# Altium footprint library EISI.PcbLib: 695 footprints (part 12 of 44)
Each footprint in its own frame and in the unit in brackets; x right, y up, seen from the top. Pads: shape width x height; smd on the part's side, far side on the other; paste and mask are expansions set on the pad; w line width, h text height; cw(c..) or ccw(c..) is an arc to the next point about the centre after c.
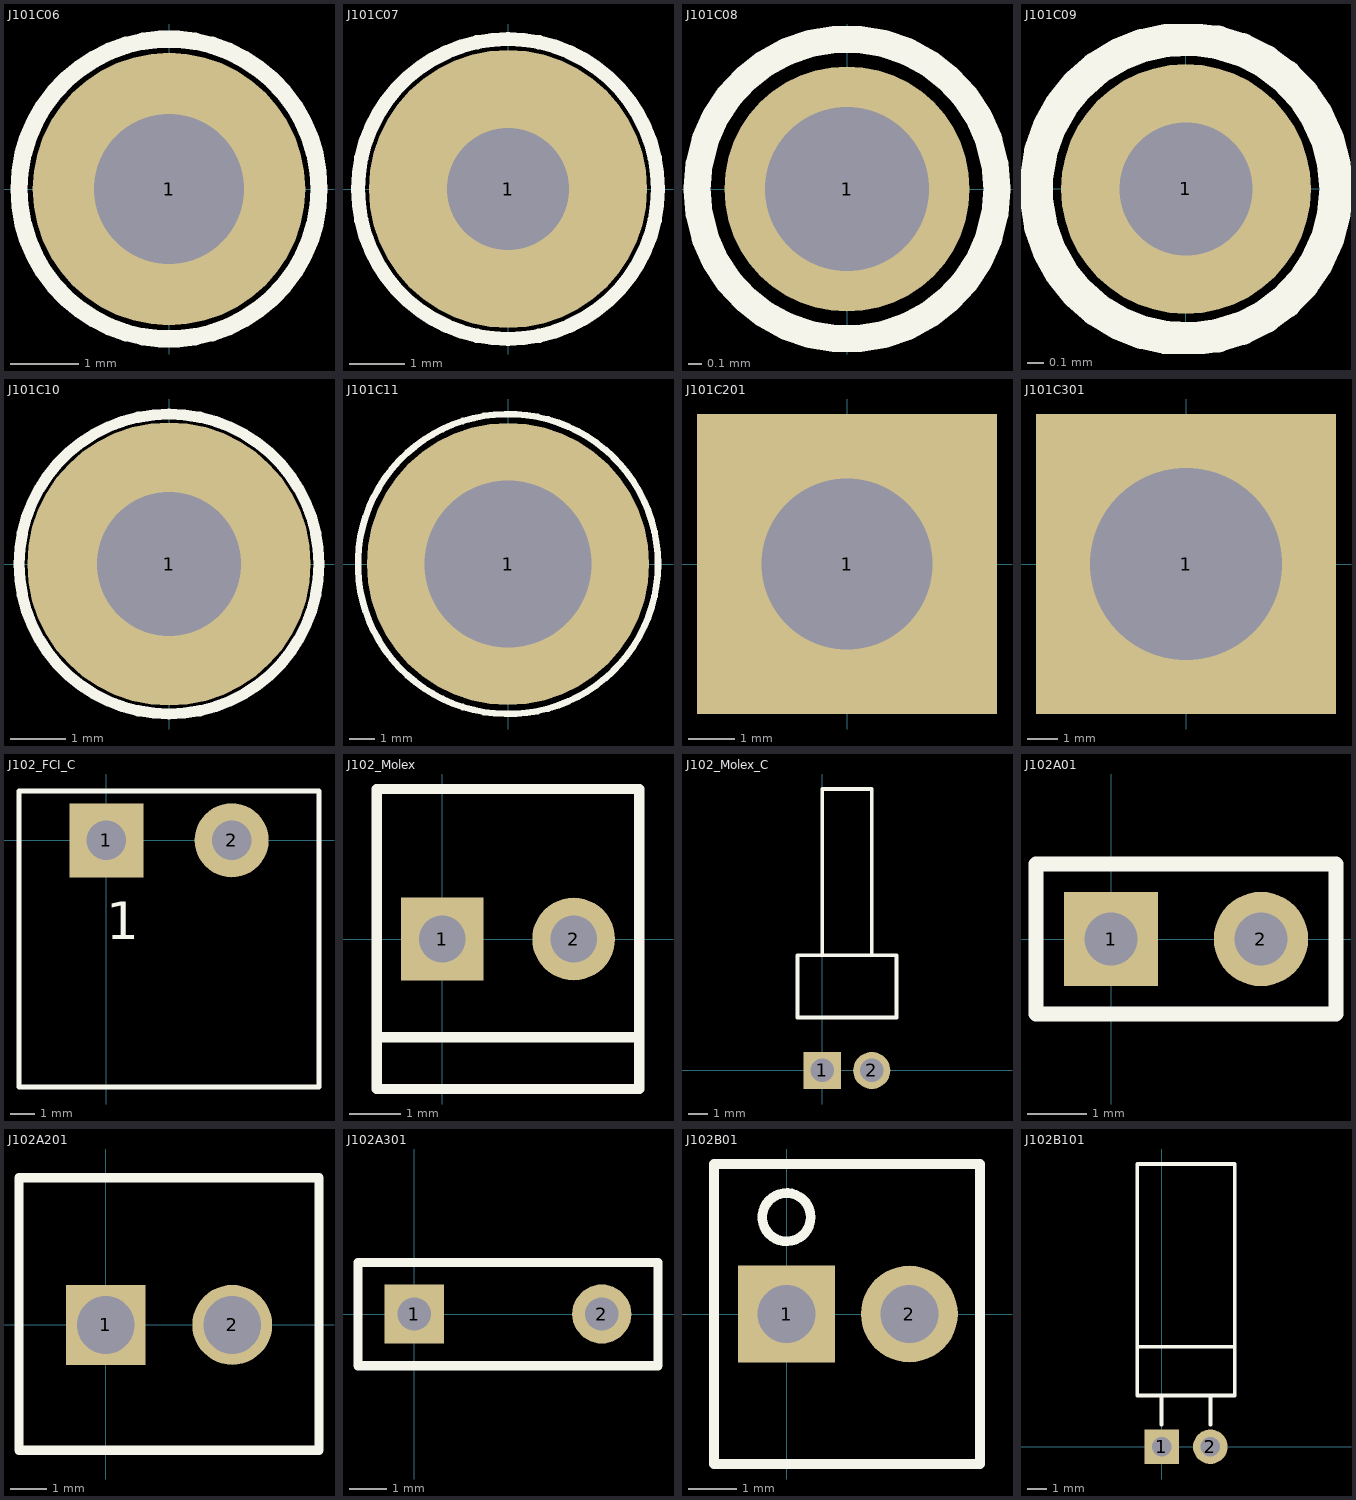
[diagram p11: the footprints below, top view; thin cyan lines are the x and y axes]

## J101C06 [mm] "Trou 2.2mm pastille 4mm"
pads (1):
  round 4 hole 2.2: 1(0,0)
TopOverlay:
  circle w0.254: c0,0 r2.2

## J101C07 [mil]
pads (1):
  round 197 hole 86.61: 1(0,0)
TopOverlay:
  circle w10: c0,0 r106.3

## J101C08 [mm] "trou 1.2mm pad 1.8mm"
pads (1):
  round 1.8 hole 1.2: 1(0,0)
TopOverlay:
  circle w0.2: c0,0 r1.1

## J101C09 [mm] "trou 0.8 mm pad 1.5mm"
pads (1):
  round 1.5 hole 0.8: 1(0,0)
TopOverlay:
  circle w0.2: c0,0 r0.9

## J101C10 [mm] "trou 2.6 mm pastille 5.1mm"
pads (1):
  round 5.1 hole 2.6: 1(0,0)
TopOverlay:
  circle w0.2: c0,0 r2.7

## J101C11 [mm] "Borne labo fiche 4mm M6"
height 10
pads (1):
  round 11 hole 6.5 unplated: 1(0,0)
TopOverlay:
  circle w0.254: c0,0 r5.842

## J101C201 [mm]
pads (1):
  rect 6.5x6.5 hole 3.7: 1(0,0)

## J101C301 [mm]
pads (1):
  rect 10x10 hole 6.4: 1(0,0)

## J102_FCI_C [mm] "TERM BLOCK HDR 2POS 5.08MM R/A FCI"
height 8.5
pads (2):
  rect 3x3 hole 1.6: 1(0,0)
  round 3 hole 1.6: 2(5.08,0)
TopOverlay:
  lines w0.2: -3.54,-10 -3.54,2 8.62,2 8.62,-10 -3.54,-10
  text "1" at 0,-4 h1.52

## J102_Molex [mm] "Connecteur Molex droit 2 pôles"
height 11.7
pads (2):
  rect 1.6x1.6 hole 0.9: 1(0,0)
  round 1.6 hole 0.9: 2(2.54,0)
TopOverlay:
  lines w0.2: -1.27,-1.9 3.81,-1.9 ; -1.27,-2.9 3.81,-2.9 3.81,2.9 -1.27,2.9 -1.27,0 -1.27,-2.9

## J102_Molex_C [mm]
pads (2):
  rect 1.9x1.9 hole 1.2: 1(0,0)
  round 1.9 hole 1.2: 2(2.54,0)
TopOverlay:
  lines w0.2: 0,5.9 0,14.42 2.54,14.42 2.54,5.9 ; -1.27,2.72 -1.27,5.9 3.81,5.9 3.81,2.72 -1.27,2.72

## J102A01 [mm]
pads (2):
  rect 1.6x1.6 hole 0.9: 1(0,0)
  round 1.6 hole 0.9: 2(2.54,0)
TopOverlay:
  lines w0.254: -1.27,-1.27 -1.27,1.27 3.81,1.27 3.81,-1.27 -1.27,-1.27

## J102A201 [mil]
pads (2):
  rect 87x87 hole 63: 1(0,0)
  round 87 hole 63: 2(137.79,0)
TopOverlay:
  lines w10: -94.49,-136.61 -94.49,160.24 232.28,160.24 232.28,-136.61 -94.49,-136.61

## J102A301 [mm]
pads (2):
  rect 1.6x1.6 hole 0.9: 1(0,0)
  round 1.6 hole 0.9: 2(5.08,0)
TopOverlay:
  lines w0.254: -1.524,-1.397 -1.524,1.397 6.604,1.397 6.604,-1.397 -1.524,-1.397

## J102B01 [mm] "Micro-Barette serre-fils pas 2.54mm"
height 8.5
pads (2):
  rect 2x2 hole 1.2: 1(0,0)
  round 2 hole 1.2: 2(2.54,0)
TopOverlay:
  circle w0.2: c0,2 r0.5
  lines w0.2: -1.5,-3.1 4,-3.1 4,3.1 -1.5,3.1 -1.5,-3.1

## J102B101 [mm]
pads (2):
  rect 1.8x1.8 hole 1.016 unplated: 1(0,0)
  round 1.8 hole 1.016 unplated: 2(2.54,0)
TopOverlay:
  lines w0.2: -1.27,5.207 3.785,5.207 ; 0,1.143 0,2.667 ; 2.54,1.143 2.54,2.667 ; -1.27,2.667 3.81,2.667 3.81,14.732 -1.27,14.732 -1.27,2.667